# Altium integrated library Optoisolator.IntLib: 1 symbol
Pins are listed as number, name and electrical type; pins without a type are passive.

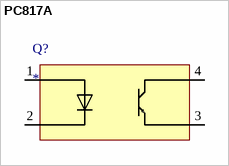
[diagram p0: symbol PC817A]

## PC817A
designator Q?
footprint PC817 (SOP-4)
pins: 1, 2, 3, 4